# Altium footprint library KF301-5.0-2P.PcbLib: 1 footprints
Each footprint in its own frame and in the unit in brackets; x right, y up, seen from the top. Pads: shape width x height; smd on the part's side, far side on the other; paste and mask are expansions set on the pad; w line width, h text height; cw(c..) or ccw(c..) is an arc to the next point about the centre after c.
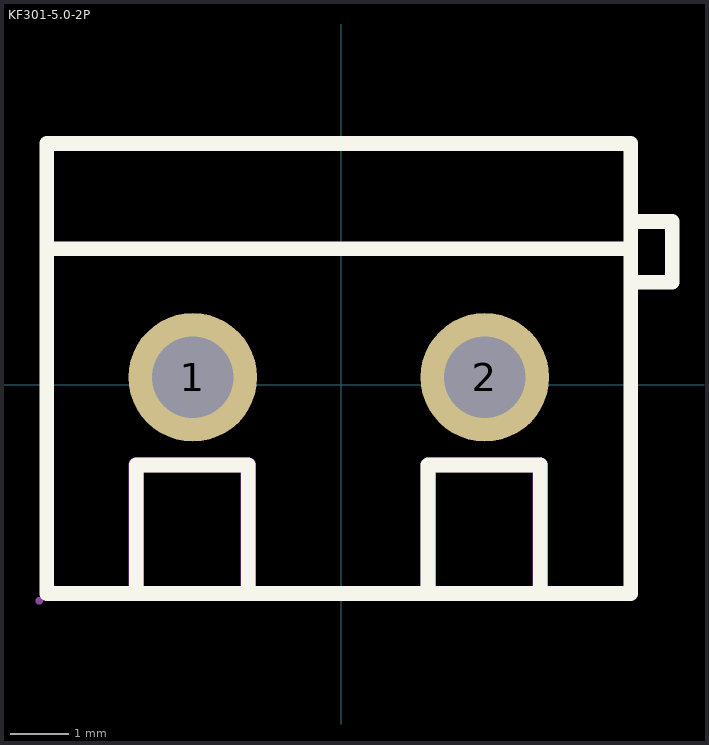
[diagram p0: the footprint, top view; thin cyan lines are the x and y axes]

## KF301-5.0-2P [mm]
pads (2):
  round 2.2 hole 1.4 paste-2539.97 mask+0.05: 1(-2.54,0.127) 2(2.46,0.127)
Top Overlay:
  lines w0.254: -5.04,2.328 4.96,2.328 ; -3.509,-3.574 -3.509,-1.374 -1.589,-1.374 -1.589,-3.574 ; 1.49,-3.573 1.49,-1.373 3.41,-1.373 3.41,-3.573 ; 5.04,1.753 5.668,1.753 5.668,2.794 5.04,2.794 ; -5.04,-3.573 -5.04,4.127 4.96,4.127 4.96,-3.573 -5.04,-3.573
Mechanical 6:
  region: -3.636,-3.574 -3.636,-1.374 -3.636,-1.349 -3.617,-1.302 -3.581,-1.266 -3.534,-1.247 -3.509,-1.247 -1.589,-1.247 -1.564,-1.247 -1.517,-1.266 -1.481,-1.302 -1.462,-1.349 -1.462,-1.374 -1.462,-3.574 -1.462,-3.626 -1.536,-3.701 -1.641,-3.701 -1.716,-3.626 -1.716,-3.574 -1.716,-1.501 -3.382,-1.501 -3.382,-3.574 -3.382,-3.626 -3.456,-3.701 -3.562,-3.701 -3.636,-3.626 -3.636,-3.574
  region: 1.364,-3.574 1.364,-1.374 1.364,-1.349 1.383,-1.302 1.419,-1.267 1.466,-1.247 1.491,-1.247 3.411,-1.247 3.437,-1.247 3.483,-1.267 3.519,-1.302 3.538,-1.349 3.538,-1.374 3.538,-3.574 3.538,-3.626 3.464,-3.701 3.359,-3.701 3.284,-3.626 3.284,-3.574 3.284,-1.501 1.618,-1.501 1.618,-3.574 1.618,-3.626 1.544,-3.701 1.439,-3.701 1.364,-3.626 1.364,-3.574
Mechanical 15:
  region: -5.107,-3.7 -5.107,-3.725 -5.142,-3.76 -5.192,-3.76 -5.227,-3.725 -5.227,-3.7 -5.227,-3.675 -5.192,-3.64 -5.142,-3.64 -5.107,-3.675 -5.107,-3.7
  region: 2.96,0.127 2.96,0.028 2.884,-0.156 2.743,-0.297 2.559,-0.373 2.361,-0.373 2.177,-0.297 2.036,-0.156 1.96,0.028 1.96,0.127 1.96,0.226 2.036,0.41 2.177,0.551 2.361,0.627 2.559,0.627 2.743,0.551 2.884,0.41 2.96,0.226 2.96,0.127
  region: -2.04,0.127 -2.04,0.028 -2.116,-0.156 -2.257,-0.297 -2.441,-0.373 -2.639,-0.373 -2.823,-0.297 -2.964,-0.156 -3.04,0.028 -3.04,0.127 -3.04,0.226 -2.964,0.41 -2.823,0.551 -2.639,0.627 -2.441,0.627 -2.257,0.551 -2.116,0.41 -2.04,0.226 -2.04,0.127
  lines w0.051: -5.04,-3.473 -5.04,4.127 4.96,4.127 4.96,-3.473 -5.04,-3.473